# EAGLE library part FT232RQ (library ftdi4)
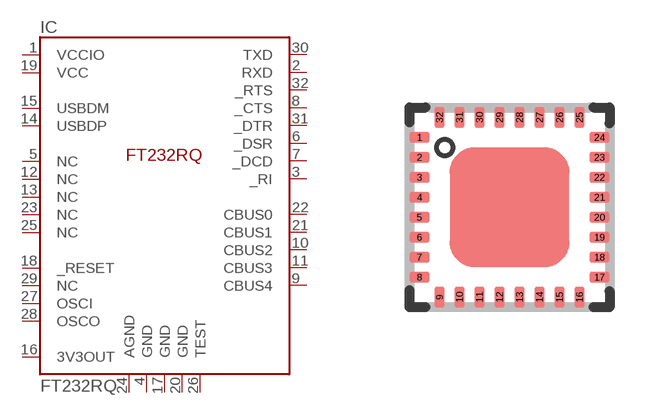
[diagram p5: symbol with the pads of QFN-32; footprint QFN-32]

Designator prefix IC

## FT232RQ  [QFN-32]
1  VCCIO  pwr
2  RXD  in
3  _RI  in
4  GND  pwr
5  NC  nc
6  _DSR  in
7  _DCD  in
8  _CTS  in
9  CBUS4
10  CBUS2
11  CBUS3
12  NC  nc
13  NC  nc
14  USBDP
15  USBDM
16  3V3OUT  out
17  GND  pwr
18  _RESET  in
19  VCC  pwr
20  GND  pwr
21  CBUS1
22  CBUS0
23  NC  nc
24  AGND  pwr
25  NC  nc
26  TEST
27  OSCI  in
28  OSCO  out
29  NC  nc
30  TXD  out
31  _DTR  in
32  _RTS  out

## Footprint QFN-32 (pad centres in mm)
QFN-32 package (5mm x 5mm)
smd 0.5 x 0.25: 1 0.25,-0.75; 2 0.25,-1.25; 3 0.25,-1.75; 4 0.25,-2.25; 5 0.25,-2.75; 6 0.25,-3.25; 7 0.25,-3.75; 8 0.25,-4.25; 17 4.75,-4.25; 18 4.75,-3.75; 19 4.75,-3.25; 20 4.75,-2.75; 21 4.75,-2.25; 22 4.75,-1.75; 23 4.75,-1.25; 24 4.75,-0.75
smd 0.25 x 0.5: 9 0.75,-4.75; 10 1.25,-4.75; 11 1.75,-4.75; 12 2.25,-4.75; 13 2.75,-4.75; 14 3.25,-4.75; 15 3.75,-4.75; 16 4.25,-4.75; 25 4.25,-0.25; 26 3.75,-0.25; 27 3.25,-0.25; 28 2.75,-0.25; 29 2.25,-0.25; 30 1.75,-0.25; 31 1.25,-0.25; 32 0.75,-0.25